# Altium schematic symbol library PowerResistors.SchLib: 1 symbol
Pins are listed as number, name and electrical type; pins without a type are passive.

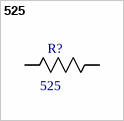
[diagram p0: symbol 525]

## 525
designator R?, comment value 525  (hidden comment: 10)
Power chip resistors 2512; Manufacturer_Part_Number: CRG0805F100K; Vendor: TE Connectivity; Built_By: EMA_UL_Team; SourceLibrary: Tyco_2012-01-31a; Tollerance: 1%; Power: 1W; RefDes: RefDes
footprint RES3520_TYCO_TYC-M
pins: 1, 2